# EAGLE library part MTD6505 (library SSI)
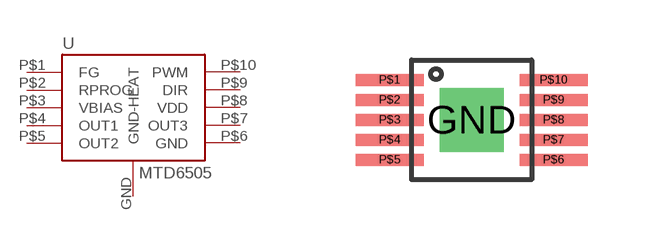
[diagram p17: symbol with the pads of UDFN-10; footprint UDFN-10]

Designator prefix -

## MTD6505  [UDFN-10]
GND  GND-HEAT
P$1  FG
P$2  RPROG
P$3  VBIAS
P$4  OUT1
P$5  OUT2
P$6  GND
P$7  OUT3
P$8  VDD
P$9  DIR
P$10  PWM

## Footprint UDFN-10 (pad centres in mm)
drill 0.8 pad 1.6 square: GND 0,0
smd 1.7 x 0.3: P$1 -2.05,1; P$2 -2.05,0.5; P$3 -2.05,0; P$4 -2.05,-0.5; P$5 -2.05,-1; P$6 2.05,-1; P$7 2.05,-0.5; P$8 2.05,0; P$9 2.05,0.5; P$10 2.05,1